# EAGLE library part HEADER-2X3P (library Deegou_Connector)
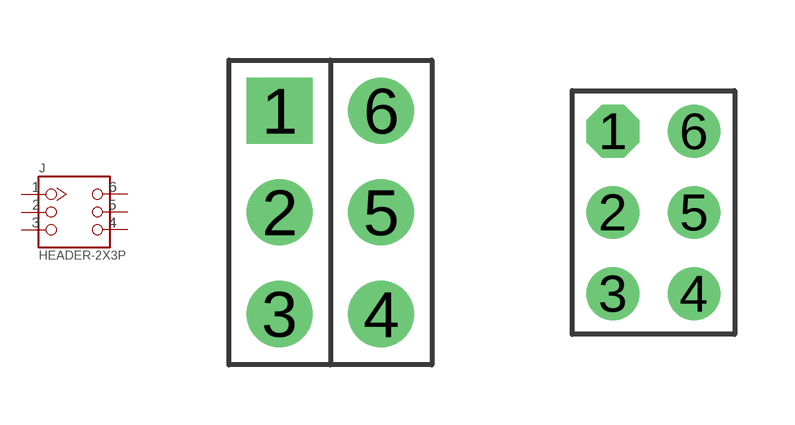
[diagram p25: symbol with the pads of 2X3P-2.54; footprints 2X3P-2.54, 2X3P-2.0]

Designator prefix J

## HEADER-2X3P-2.54  [2X3P-2.54]
1  1
2  2
3  3
4  4
5  5
6  6

## HEADER-2X3P-2.0  [2X3P-2.0]
Pads as for 2X3P-2.54

## HEADER-2X3P-SMD  [2X3P-2.54-SMD]
Pads as for 2X3P-2.54

## HEADER-2X3P-60/35MIL  [2X3P-2.54-65/35MIL]
Pads as for 2X3P-2.54

## HEADER-2X3P-1.27  [2X3P-1.27]
P$1  1
P$2  2
P$3  3
P$4  4
P$5  5
P$6  6

## HEADER-2X3P-1.27SMD  [2X3P-1.27-SMD]
Pads as for 2X3P-2.54

## HEADER-2X3P-5.08  [2X3-5.08P]
Pads as for 2X3P-2.54

## HEADER-2X3P  [2X3P-SCREW-5.08]
1  1
2  6
3  2
4  5
5  3
6  4

## HEADER-2X3P-TEST  [2X3P-2.0_TEST]
Pads as for 2X3P-2.54

## HEADER-2X3P-2.0SMD  [2X3P-2.0-SMD]
Pads as for 2X3P-2.54

## Footprint 2X3P-2.54 (pad centres in mm)
drill 0.889 pad 1.651 square: 1 -1.27,2.54
drill 0.889 pad 1.651: 2 -1.27,0; 3 -1.27,-2.54; 4 1.27,-2.54; 5 1.27,0; 6 1.27,2.54

## Footprint 2X3P-2.0 (pad centres in mm)
drill 0.813 pad 1.27 octagon: 1 -1.016,2.032
drill 0.813 pad 1.27: 2 -1.016,0; 3 -1.016,-2.032; 4 1.016,-2.032; 5 1.016,0; 6 1.016,2.032

## Footprint 2X3P-2.54-SMD (pad centres in mm)
smd 3.048 x 1.524: 1 -2.54,2.54; 2 -2.54,0; 3 -2.54,-2.54; 4 2.54,-2.54; 5 2.54,0; 6 2.54,2.54

## Footprint 2X3P-2.54-65/35MIL (pad centres in mm)
drill 0.889 pad 1.651 square: 1 -1.27,2.54
drill 0.889 pad 1.651: 2 -1.27,0; 3 -1.27,-2.54; 4 1.27,-2.54; 5 1.27,0; 6 1.27,2.54

## Footprint 2X3P-1.27 (pad centres in mm)
drill 0.508: P$1 -1.27,-0.635; P$2 0,-0.635; P$3 1.27,-0.635; P$4 1.27,0.635; P$5 0,0.635; P$6 -1.27,0.635

## Footprint 2X3P-1.27-SMD (pad centres in mm)
smd 0.8 x 2: 1 -1.27,-1.715; 2 0,-1.715; 3 1.27,-1.715; 4 1.27,1.715; 5 0,1.715; 6 -1.27,1.715

## Footprint 2X3-5.08P (pad centres in mm)
drill 1.4 pad 2.54: 1 -6.35,5.08; 2 -1.27,5.08; 3 3.81,5.08; 4 6.35,-5.08; 5 1.27,-5.08; 6 -3.81,-5.08

## Footprint 2X3P-SCREW-5.08 (pad centres in mm)
drill 1.4 pad 2.54: 1 -3.81,-5.08; 2 -6.35,5.08; 3 1.27,-5.08; 4 -1.27,5.08; 5 6.35,-5.08; 6 3.81,5.08

## Footprint 2X3P-2.0_TEST (pad centres in mm)
smd 1.4 x 1.4: 1 -1,2; 2 -1,0; 3 -1,-2; 4 1,-2; 5 1,0; 6 1,2

## Footprint 2X3P-2.0-SMD (pad centres in mm)
smd 2.4 x 0.8: 1 -2.55,2; 2 -2.55,0; 3 -2.55,-2; 4 2.55,-2; 5 2.55,0; 6 2.55,2